# EAGLE library part STCS1 (library Synapseware-transistors)
1.5 A max constant current LED driver
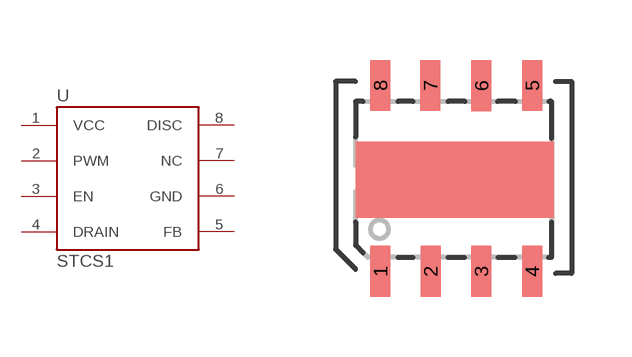
[diagram p0: symbol with the pads of POWERSO-8; footprint POWERSO-8]

Designator prefix -

## STCS1  [POWERSO-8]
1  VCC  pwr
2  PWM
3  EN
4  DRAIN
5  FB
6  GND
7  NC  nc
8  DISC

## Footprint POWERSO-8 (pad centres in mm)
PowerSO-8 Like SOIC-8, but with a heatsink layer
smd 0.5 x 1.27: 1 -1.879,-2.247; 2 -0.625,-2.247; 3 0.644,-2.247; 4 1.913,-2.247; 5 1.918,2.4; 6 0.649,2.395; 7 -0.626,2.399; 8 -1.879,2.4